# EAGLE library part CONN_6 (library bschulz)
Genaric 6 terminal header Digikey 2.54_SCREW <https://www.digikey.com/product-detail/en/on-shore-technology-inc/OSTVN06A150/ED10565-ND/1588866>
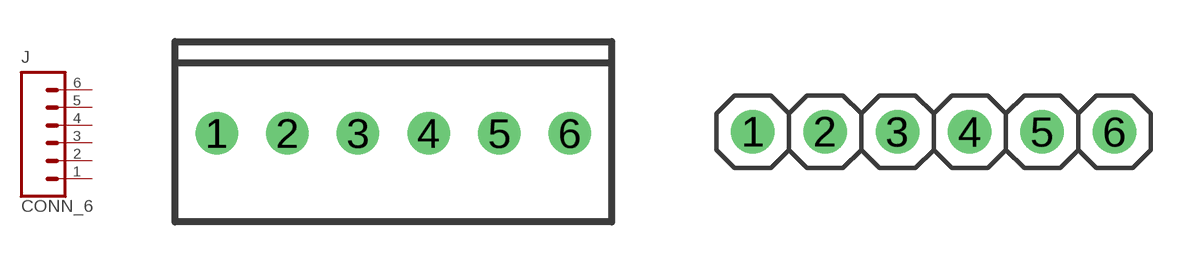
[diagram p35: symbol with the pads of 1X06_SCREW; footprints 1X06_SCREW, 1X06]

Designator prefix J

## CONN_6SCREW_2.54 (DIGIKEY: ED10565-ND; MF: OnShore; MPN: OSTVN06A150)  [1X06_SCREW]
1  1  pas
2  2  pas
3  3  pas
4  4  pas
5  5  pas
6  6  pas

## CONN_62.54  [1X06]
Pads as for 1X06_SCREW

## CONN_6MICROLOCK (DIGIKEY: 900-2059570671CT-ND; MF: Molex; MPN: 2059570671)  [1X06_MICROLOCKPLUS]
Pads as for 1X06_SCREW

## CONN_6MICROLOCK_RT (DIGIKEY: WM22471CT-ND; MF: Molex; MPN: 5055670681)  [1X06_MICROLOCKPLUS_RT]
Pads as for 1X06_SCREW

## CONN_62.54_RT  [1X06/90]
Pads as for 1X06_SCREW

## Footprint 1X06_SCREW (pad centres in mm)
PIN HEADER
drill 1.016: 1 -6.35,0; 2 -3.81,0; 3 -1.27,0; 4 1.27,0; 5 3.81,0; 6 6.35,0

## Footprint 1X06 (pad centres in mm)
PIN HEADER
drill 1.016: 1 -6.35,0; 2 -3.81,0; 3 -1.27,0; 4 1.27,0; 5 3.81,0; 6 6.35,0

## Footprint 1X06_MICROLOCKPLUS (pad centres in mm)
Micro-Lock PLUS, 6 position, single row Datasheet <https://www.molex.com/pdm_docs/sd/2059570671_sd.pdf>
smd 0.8 x 1.2: 1 -3.125,-0.6; 2 -1.875,-0.6; 3 -0.625,-0.6; 4 0.625,-0.6; 5 1.875,-0.6; 6 3.125,-0.6
smd 1.3 x 2.15: BODY@1 -5.025,1.695; BODY@2 5.025,1.695

## Footprint 1X06_MICROLOCKPLUS_RT (pad centres in mm)
Micro-Lock PLUS, 6 position, single row, Right Angle Datasheet <https://www.molex.com/pdm_docs/sd/5055670681_sd.pdf>
smd 0.8 x 1.2: 1 -3.125,-0.6; 2 -1.875,-0.6; 3 -0.625,-0.6; 4 0.625,-0.6; 5 1.875,-0.6; 6 3.125,-0.6
smd 1.3 x 2.15: BODY@1 -5.025,1.695; BODY@2 5.025,1.695

## Footprint 1X06/90 (pad centres in mm)
PIN HEADER
drill 1.016 long: 1 -6.35,-3.81; 2 -3.81,-3.81; 3 -1.27,-3.81; 4 1.27,-3.81; 5 3.81,-3.81; 6 6.35,-3.81